# Altium footprint library Crazy_PCB.PcbLib: 126 footprints (part 2 of 8)
Each footprint in its own frame and in the unit in brackets; x right, y up, seen from the top. Pads: shape width x height; smd on the part's side, far side on the other; paste and mask are expansions set on the pad; w line width, h text height; cw(c..) or ccw(c..) is an arc to the next point about the centre after c.
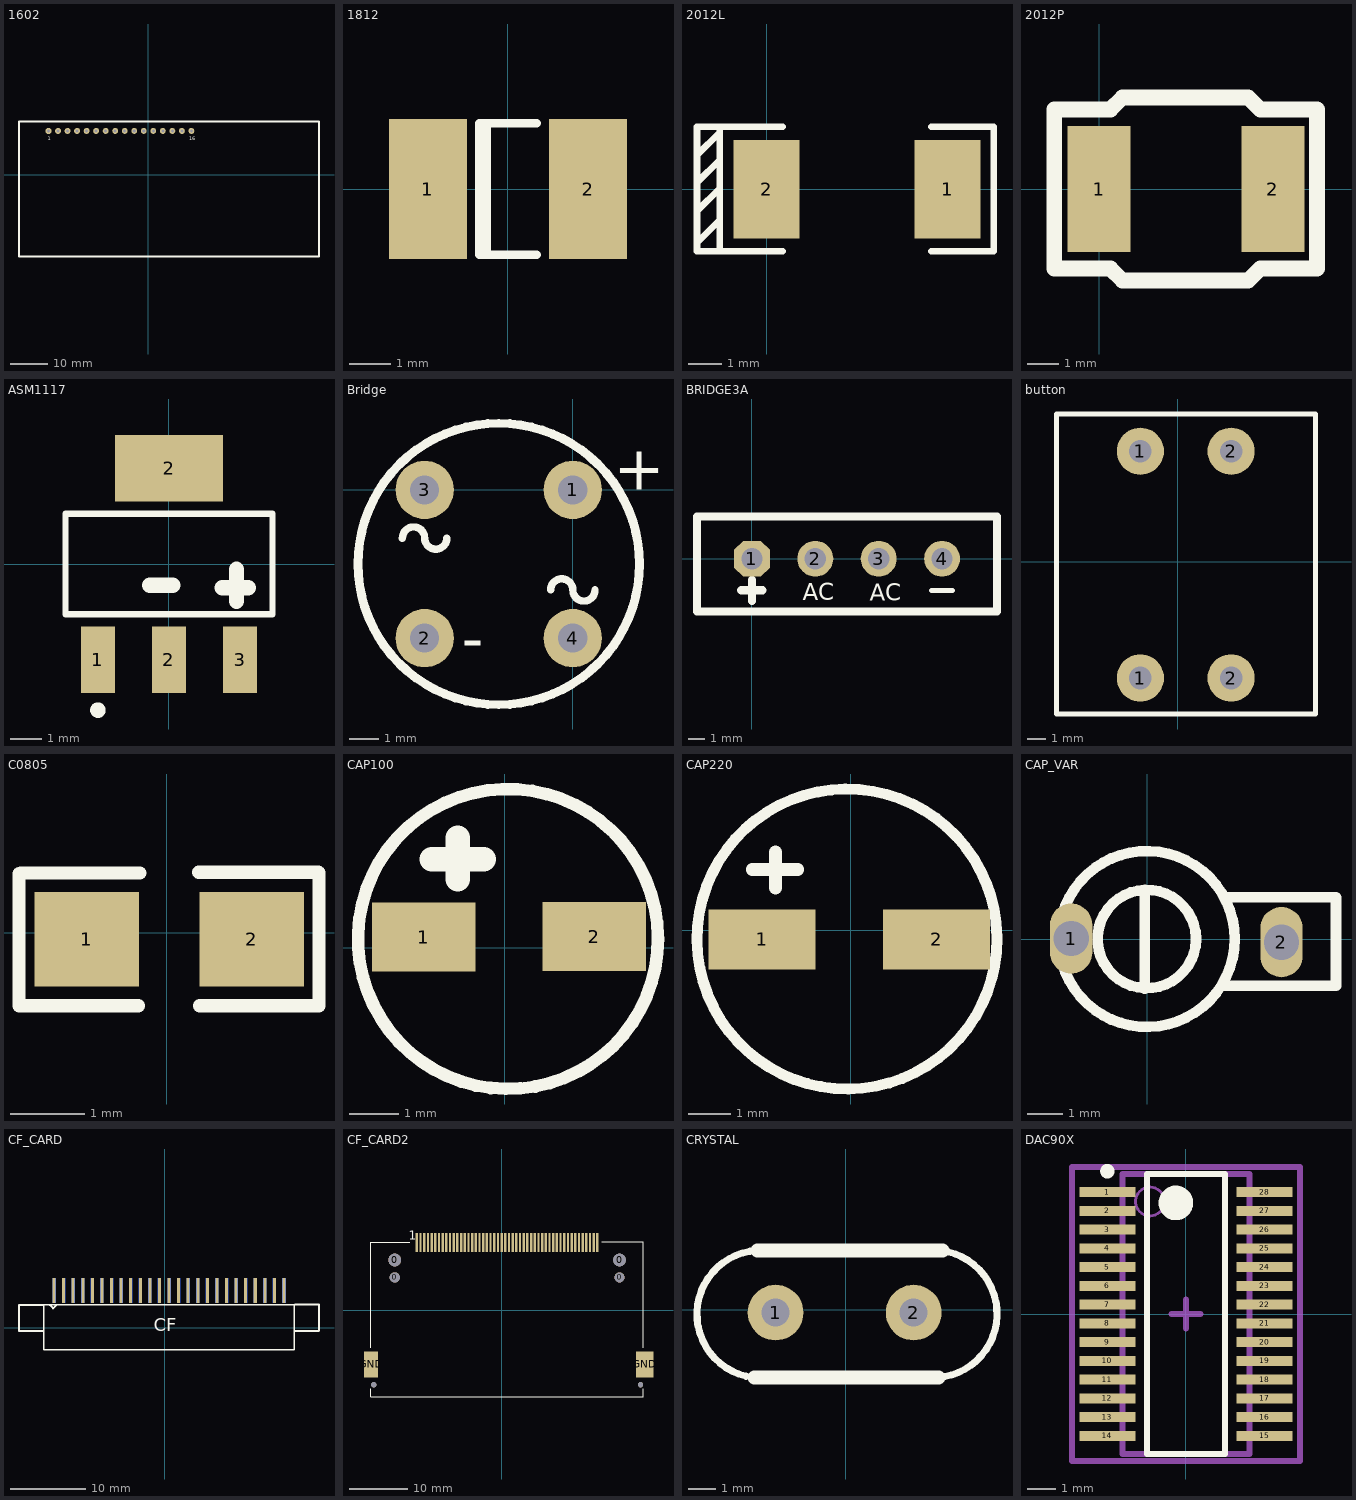
[diagram p1: the footprints below, top view; thin cyan lines are the x and y axes]

## 1602 [mil]
height 393.7
pads (16):
  oct 62x62 hole 32: 1(-1047.48,460.79)
  round 62 hole 32: 2(-947.48,460.79) 3(-847.48,460.79) 4(-747.48,460.79) 5(-647.48,460.79) 6(-547.48,460.79) 7(-447.48,460.79) 8(-347.48,460.79) 9(-247.48,460.79) 10(-147.48,460.79) 11(-47.48,460.79) 12(52.52,460.79) 13(152.52,460.79) 14(252.52,460.79) 15(352.52,460.79) 16(452.52,460.79)
Top Overlay:
  lines w19.68: -1357.48,-859.21 -1357.48,560.79 1792.52,560.79 1792.52,-859.21 -1357.48,-859.21
  text "16" at 432.52,360.79 h40
  text "1" at -1057.48,360.79 h40

## 1812 [mm] "Chip Capacitor; Body 4.5 x 3.2 mm (LxW typ)"
height 1.1
pads (2):
  rect 1.9x3.4 smd: 1(-1.95,0) 2(1.95,0)
Top Overlay:
  lines w0.2: -0.51,-1.6 -0.51,1.6 ; 0.7,-1.6 -0.7,-1.6 -0.7,1.6 0.7,1.6

## 2012L [mm]
height 2.1
pads (2):
  rect 2x3 smd: 1(5.5,0) 2(0,0)
Top Overlay:
  lines w0.2: -2.116,-1.626 -1.456,-0.965 ; -2.116,-0.66 -1.421,0.035 ; -2.116,0.203 -1.421,0.898 ; -2.116,1.041 -1.421,1.737 ; -1.428,-1.88 -2.116,-1.88 -2.116,1.905 -1.421,1.905 ; 0.484,-1.886 -1.421,-1.886 -1.421,1.905 ; 0.484,1.905 -1.421,1.905 ; 4.996,-1.886 6.901,-1.886 6.901,1.905 4.996,1.905

## 2012P [mm]
height 2.1
pads (2):
  rect 2x4 smd: 1(0,0) 2(5.5,0)
Top Overlay:
  lines w0.5: -1.422,-2.515 -1.422,2.515 0.356,2.515 0.737,2.896 4.724,2.896 5.105,2.515 6.901,2.515 6.901,0 6.901,-2.515 5.105,-2.515 4.724,-2.896 0.737,-2.896 0.356,-2.515 -1.422,-2.515

## ASM1117 [mm] "电压转换芯片"
pads (4):
  rect 1.1x2.15 smd: 1(-2.3,-3.1) 2(0,-3.1) 3(2.3,-3.1)
  rect 3.5x2.15 smd: 2(0,3.1)
Top Overlay:
  circle w0.25: c-2.3,-4.725 r0.125
  lines w0.2: -3.35,-1.625 3.35,-1.625 3.35,1.625 -3.35,1.625 -3.35,-1.625
  lines w0.5: -0.627,-0.683 0.123,-0.683 ; 1.723,-0.763 2.563,-0.763 ; 2.183,-1.203 2.183,-0.163

## Bridge [mm]
pads (4):
  round 2 hole 1: 1(0,0) 2(-5.08,-5.08) 3(-5.08,0) 4(0,-5.08)
Top Overlay:
  circle w0.305: c-2.54,-2.54 r4.826
  lines w0.254: -5.842,-1.651 cw(c-5.461,-1.651) -5.08,-1.651 ccw(c-4.699,-1.651) -4.318,-1.651 ; -0.762,-3.429 cw(c-0.381,-3.429) 0,-3.429 ccw(c0.381,-3.429) 0.762,-3.429
  text "-" at -3.81,-5.842 h1.52
  text "+" at 1.397,0 h1.52

## BRIDGE3A [mil]
pads (4):
  oct 85x85 hole 50: 1(0,0)
  round 85 hole 50: 2(150,0) 3(300,0) 4(450,0)
Top Overlay:
  lines w12: 425,-75 475,-75
  lines w19.68: -25,-75 25,-75 ; 0,-100 0,-50 ; -130,-125 -130,100 580,100 580,-125 -130,-125
  text "AC" at 120.08,-98.82 h40
  text "AC" at 278.74,-100 h40

## button [mm]
height 1.75
pads (4):
  round 2.5 hole 1.2: 1(-1.981,-6.147) 1(-1.981,5.853) 2(2.819,-6.147) 2(2.819,5.853)
Top Overlay:
  lines w0.254: -6.426,-8.052 -6.426,7.823 7.29,7.823 7.29,-8.052 -6.426,-8.052

## C0805 [mm]
pads (2):
  rect 1.4x1.27 smd: 1(-1.071,-0.087) 2(1.139,-0.087)
Top Overlay:
  lines w0.178: -1.98,-0.98 -0.38,-0.98 ; -1.98,-0.976 -1.98,0.792 ; -1.96,0.8 -0.36,0.8 ; 0.43,0.81 2.03,0.81 ; 0.44,-0.98 2.04,-0.98 ; 2.04,-0.976 2.04,0.802

## CAP100 [mm]
pads (2):
  rect 2.1x1.4 smd: 1(-1.64,0.22) 2(1.82,0.23)
Top Overlay:
  lines w0.254: 3.113,0.2 cw(c0.07,0.18) 3.112,0.221
  lines w0.5: -1.48,1.8 -0.42,1.8 ; -0.95,1.39 -0.95,2.23

## CAP220 [mm]
pads (2):
  rect 2.5x1.4 smd: 1(-2.07,-0.21) 2(2,-0.21)
Top Overlay:
  lines w0.254: 3.41,-0.176 cw(c-0.09,-0.2) 3.41,-0.153
  lines w0.3: -2.3,1.42 -1.24,1.42 ; -1.76,0.99 -1.76,1.83

## CAP_VAR [mm]
pads (2):
  oval 1.2x2 hole 1: 1(-2.17,0.02) 2(3.81,-0.08)
Top Overlay:
  circle w0.3: c-0.02,0.01 r2.5
  circle w0.3: c-0.02,0.01 r1.4
  lines w0.3: -0.08,-1.4 -0.08,1.37 ; 2.22,-1.32 5.36,-1.32 ; 2.28,1.2 5.34,1.2 ; 5.36,-1.31 5.36,1.19

## CF_CARD [mm]
pads (50):
  rect 0.4x3.3 smd far side: 1(-14.65,4.92) 3(-13.38,4.92) 5(-12.11,4.92) 7(-10.84,4.92) 9(-9.57,4.92) 11(-8.3,4.92) 13(-7.03,4.92) 15(-5.76,4.92) 17(-4.49,4.92) 19(-3.22,4.92) 21(-1.95,4.92) 23(-0.68,4.92) 25(0.59,4.92) 27(1.86,4.92) 29(3.13,4.92) 31(4.4,4.92) 33(5.67,4.92) 35(6.94,4.92) 37(8.21,4.92) 39(9.48,4.92) 41(10.75,4.92) 43(12.02,4.92) 45(13.29,4.92) 47(14.56,4.92) 49(15.83,4.92)
  rect 0.4x3.3 smd: 2(-14.65,4.92) 4(-13.38,4.92) 6(-12.11,4.92) 8(-10.84,4.92) 10(-9.57,4.92) 12(-8.3,4.92) 14(-7.03,4.92) 16(-5.76,4.92) 18(-4.49,4.92) 20(-3.22,4.92) 22(-1.95,4.92) 24(-0.68,4.92) 26(0.59,4.92) 28(1.86,4.92) 30(3.13,4.92) 32(4.4,4.92) 34(5.67,4.92) 36(6.94,4.92) 38(8.21,4.92) 40(9.48,4.92) 42(10.75,4.92) 44(12.02,4.92) 46(13.29,4.92) 48(14.56,4.92) 50(15.83,4.92)
Top Overlay:
  lines w0.203: -16.03,-2.96 17.2,-2.96 17.2,3.06 -16.03,3.06 -16.03,-2.95
  lines w0.254: -16.08,-0.45 -19.3,-0.45 -19.3,2.99 -19.27,3.02 -15.96,3.02 ; -15.245,3.025 -14.78,2.56 ; -14.78,2.55 -14.3,3.03 ; 17.21,-0.43 20.44,-0.43 20.47,-0.4 20.47,3.04 17.25,3.04
  text "CF" at -1.43,-1.08 h3

## CF_CARD2 [mm]
pads (58):
  round 0.9 hole 0.9 unplated: 0(-22.111,-12.839) 0(23.889,-12.839)
  round 1.75 hole 1.75 unplated: 0(-18.481,5.661) 0(20.254,5.661)
  round 2.2 hole 2.2 unplated: 0(-18.481,8.661) 0(20.254,8.661)
  rect 0.4x3.302 smd: 1(-14.671,11.665) 2(-13.401,11.665) 3(-12.131,11.665) 4(-10.861,11.665) 5(-9.591,11.665) 6(-8.321,11.665) 7(-7.051,11.665) 8(-5.781,11.665) 9(-4.511,11.665) 10(-3.241,11.665) 11(-1.971,11.665) 12(-0.701,11.665) 13(0.569,11.665) 14(1.839,11.665) 15(3.109,11.665) 16(4.379,11.665) 17(5.649,11.665) 18(6.919,11.665) 19(8.189,11.665) 20(9.459,11.665) 21(10.729,11.665) 22(11.999,11.665) 23(13.269,11.665) 24(14.539,11.665) 25(15.809,11.665) 26(-14.036,11.665) 27(-12.766,11.665) 28(-11.496,11.665) 29(-10.226,11.665) 30(-8.956,11.665) 31(-7.686,11.665) 32(-6.416,11.665) 33(-5.146,11.665) 34(-3.876,11.665) 35(-2.606,11.665) 36(-1.336,11.665) 37(-0.066,11.665) 38(1.204,11.665) 39(2.474,11.665) 40(3.744,11.665) 41(5.014,11.665) 42(6.284,11.665) 43(7.554,11.665) 44(8.824,11.665) 45(10.094,11.665) 46(11.364,11.665) 47(12.634,11.665) 48(13.904,11.665) 49(15.174,11.665) 50(16.444,11.665)
  rect 2.4x4.5 smd: GND(-22.571,-9.339)
  rect 3x4.5 smd: GND(24.639,-9.339)
Top Overlay:
  lines w0.203: -22.611,-13.573 -22.611,-14.939 24.389,-14.939 24.389,-13.573 ; -22.611,-6.507 -22.611,11.76 -15.896,11.76 ; 17.179,11.77 24.389,11.77 24.389,-6.507
  text "1" at -16.07,12.12 h1.52

## CRYSTAL [mm]
pads (2):
  round 2 hole 1: 1(-2.517,-0.095) 2(2.436,-0.095)
Top Overlay:
  lines w0.254: -3.316,-2.424 cw(c-3.048,-0.15) -3.175,2.136 ; 3.265,-2.426 ccw(c3.138,-0.14) 3.406,2.134
  lines w0.5: -3.282,-2.419 3.322,-2.419 ; -3.175,2.136 3.48,2.136

## DAC90X [mm] "SOP, 28-Leads, Body 9.7x4.4mm (max), Pitch 0.65mm, IPC Medium Density"
height 2.65
pads (28):
  rect 1.95x0.35 smd: 1(-2.725,4.225) 2(-2.725,3.575) 3(-2.725,2.925) 4(-2.725,2.275) 5(-2.725,1.625) 6(-2.725,0.975) 7(-2.725,0.325) 8(-2.725,-0.325) 9(-2.725,-0.975) 10(-2.725,-1.625) 11(-2.725,-2.275) 12(-2.725,-2.925) 13(-2.725,-3.575) 14(-2.725,-4.225) 15(2.725,-4.225) 16(2.725,-3.575) 17(2.725,-2.925) 18(2.725,-2.275) 19(2.725,-1.625) 20(2.725,-0.975) 21(2.725,-0.325) 22(2.725,0.325) 23(2.725,0.975) 24(2.725,1.625) 25(2.725,2.275) 26(2.725,2.925) 27(2.725,3.575) 28(2.725,4.225)
Top Overlay:
  circle w0.6: c-0.35,3.85 r0.3
  circle w0.25: c-2.725,4.95 r0.125
  lines w0.2: -1.35,-4.85 1.35,-4.85 1.35,4.85 -1.35,4.85 -1.35,-4.85
Mechanical 13:
  circle w0.1: c-1.25,3.9 r0.5
  lines w0.2: -2.2,-4.85 2.2,-4.85 2.2,4.85 -2.2,4.85 -2.2,-4.85
Mechanical 15:
  lines w0.2: -0.5,0 0.5,0 ; 0,-0.5 0,0.5 ; -3.95,-5.1 3.95,-5.1 3.95,5.1 -3.95,5.1 -3.95,-5.1
3D body: height 2.65, standoff 0.1, extent -2.2,-4.85 2.2,4.85